# Altium integrated library Conn_Male_Header.IntLib: 2 symbols
Pins are listed as number, name and electrical type; pins without a type are passive.

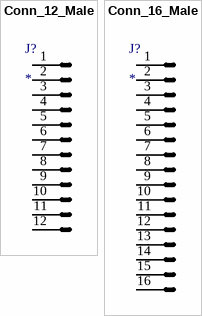
[diagram p0: symbols Conn_12_Male to Conn_16_Male]

## Conn_12_Male
designator J?
Conn_01x12_Male
footprint Conn_12_Male
pins: 1, 2, 3, 4, 5, 6, 7, 8, 9, 10, 11, 12

## Conn_16_Male
designator J?
Conn_01x16_Male
footprint CONN_16_MALE
pins: 1, 2, 3, 4, 5, 6, 7, 8, 9, 10, 11, 12, 13, 14, 15, 16